# EAGLE library part ESP8266 (library juiy-lib)
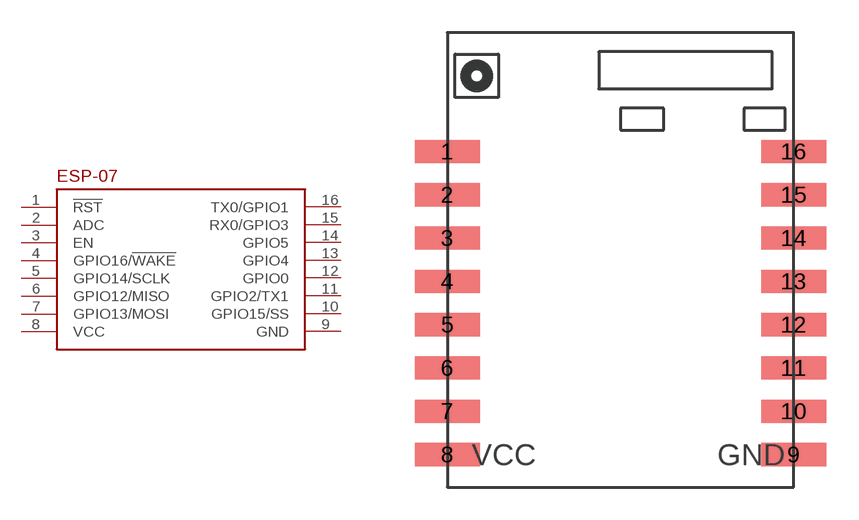
[diagram p0: symbol with the pads of ESP8266; footprint ESP8266]

Designator prefix ESP-07

## ESP8266  [ESP8266]
1  !RST!
2  ADC
3  EN
4  GPIO16/!WAKE!
5  GPIO14/SCLK
6  GPIO12/MISO
7  GPIO13/MOSI
8  VCC  pwr
9  GND  sup
10  GPIO15/SS
11  GPIO2/TX1
12  GPIO0
13  GPIO4
14  GPIO5
15  RX0/GPIO3
16  TX0/GPIO1

## Footprint ESP8266 (pad centres in mm)
smd 3 x 1.067: 1 0,15.5; 2 0,13.5; 3 0,11.5; 4 0,9.5; 5 0,7.5; 6 0,5.5; 7 0,3.5; 8 0,1.5; 9 16,1.5; 10 16,3.5; 11 16,5.5; 12 16,7.5; 13 16,9.5; 14 16,11.5; 15 16,13.5; 16 16,15.5